# Altium schematic symbol library MEMS.SchLib: 12 symbols
Pins are listed as number, name and electrical type; pins without a type are passive.

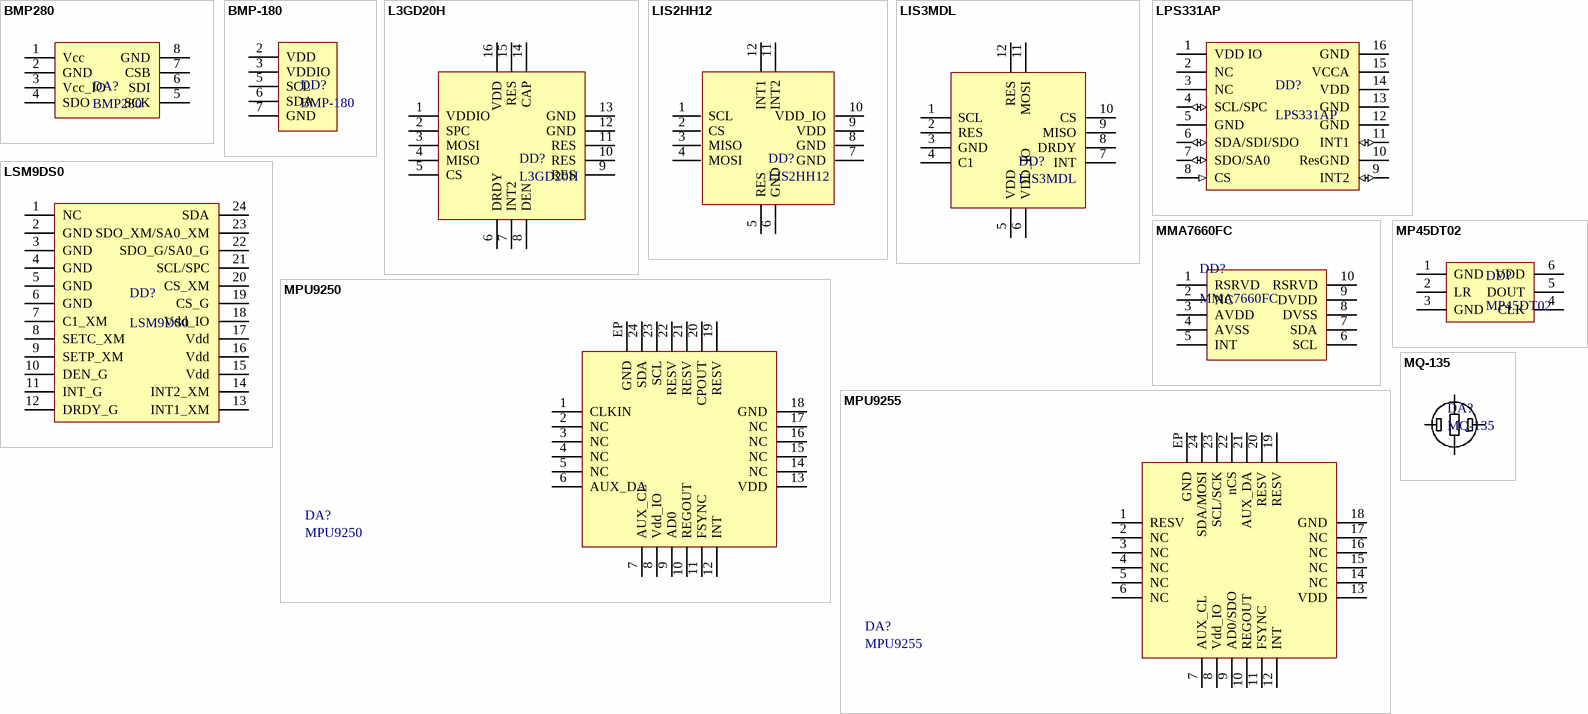
[diagram p0: symbols BMP280 to MQ-135]

## BMP280
designator DA?
Digital Pressure Sensor
footprint SOP8
pins: 1 Vcc, 2 GND, 3 Vcc_IO, 4 SDO, 5 SCK, 6 SDI, 7 CSB, 8 GND

## BMP-180
designator DD?
Digital pressure sensor
footprint BMP-180
pins: 2 VDD, 3 VDDIO, 5 SCL, 6 SDA, 7 GND

## L3GD20H
designator DD?
Low-power three-axis gyroscope
footprint LGA-16
pins: 1 VDDIO, 2 SPC, 3 MOSI, 4 MISO, 5 CS, 6 DRDY, 7 INT2, 8 DEN, 9 RES, 10 RES, 11 RES, 12 GND, 13 GND, 14 CAP, 15 RES, 16 VDD

## LIS2HH12
designator DD?
Low power 3-axis magnetic sensor
footprint LGA-12
pins: 1 SCL, 2 CS, 3 MISO, 4 MOSI, 5 RES, 6 GND, 7 GND, 8 GND, 9 VDD, 10 VDD_IO, 11 INT2, 12 INT1

## LIS3MDL
designator DD?
Ultra-low-power high performance  three-axis magnetic sensor
footprint LGA-12
pins: 1 SCL, 2 RES, 3 GND, 4 C1, 5 VDD, 6 VDD_IO, 7 INT, 8 DRDY, 9 MISO, 10 CS, 11 MOSI, 12 RES

## LPS331AP
designator DD?
MEMS Barometer
footprint HCLGA-16L
pins: 1 VDD IO (power), 2 NC, 3 NC, 4 SCL/SPC (io), 5 GND (power), 6 SDA/SDI/SDO (io), 7 SDO/SA0 (io), 8 CS (in), 9 INT2 (io), 10 ResGND, 11 INT1 (io), 12 GND (power), 13 GND (power), 14 VDD (power), 15 VCCA (power), 16 GND (power)

## LSM9DS0
designator DD?
MEMS Accel, Mag, Gyro
footprint LGA-24
pins: 1 NC, 2 GND (power), 3 GND (power), 4 GND (power), 5 GND (power), 6 GND (power), 7 C1_XM (power), 8 SETC_XM (power), 9 SETP_XM (power), 10 DEN_G (power), 11 INT_G (power), 12 DRDY_G (power), 13 INT1_XM, 14 INT2_XM, 15 Vdd, 16 Vdd, 17 Vdd, 18 Vdd_IO, 19 CS_G, 20 CS_XM, 21 SCL/SPC, 22 SDO_G/SA0_G, 23 SDO_XM/SA0_XM, 24 SDA

## MMA7660FC
designator DD?
Freescale MEMS Accelerator 1.5G LowCost
footprint DFN-10 3x3 NO EP
pins: 1 RSRVD, 2 NC, 3 AVDD, 4 AVSS, 5 INT, 6 SCL, 7 SDA, 8 DVSS, 9 DVDD, 10 RSRVD

## MP45DT02
designator DD?
MEMS microphone
footprint HLGA-6
pins: 1 GND, 2 LR, 3 GND, 4 CLK, 5 DOUT, 6 VDD

## MPU9250
designator DA?
Invensense 9-DOF MEMS
footprint QFN-24_3x3
pins: 1 CLKIN, 2 NC, 3 NC, 4 NC, 5 NC, 6 AUX_DA, 7 AUX_CL, 8 Vdd_IO, 9 AD0, 10 REGOUT, 11 FSYNC, 12 INT, 13 VDD, 14 NC, 15 NC, 16 NC, 17 NC, 18 GND, 19 RESV, 20 CPOUT, 21 RESV, 22 RESV, 23 SCL, 24 SDA, EP GND

## MPU9255
designator DA?
Invensense 9-DOF MEMS
footprint QFN-24_3x3
pins: 1 RESV, 2 NC, 3 NC, 4 NC, 5 NC, 6 NC, 7 AUX_CL, 8 Vdd_IO, 9 AD0/SDO, 10 REGOUT, 11 FSYNC, 12 INT, 13 VDD, 14 NC, 15 NC, 16 NC, 17 NC, 18 GND, 19 RESV, 20 RESV, 21 AUX_DA, 22 nCS, 23 SCL/SCK, 24 SDA/MOSI, EP GND

## MQ-135
designator DA?
CO2 sensor
footprint MQ-135
pins: A, B, H1, H2